# Altium integrated library pca20017.IntLib: 30 symbols
Pins are listed as number, name and electrical type; pins without a type are passive.

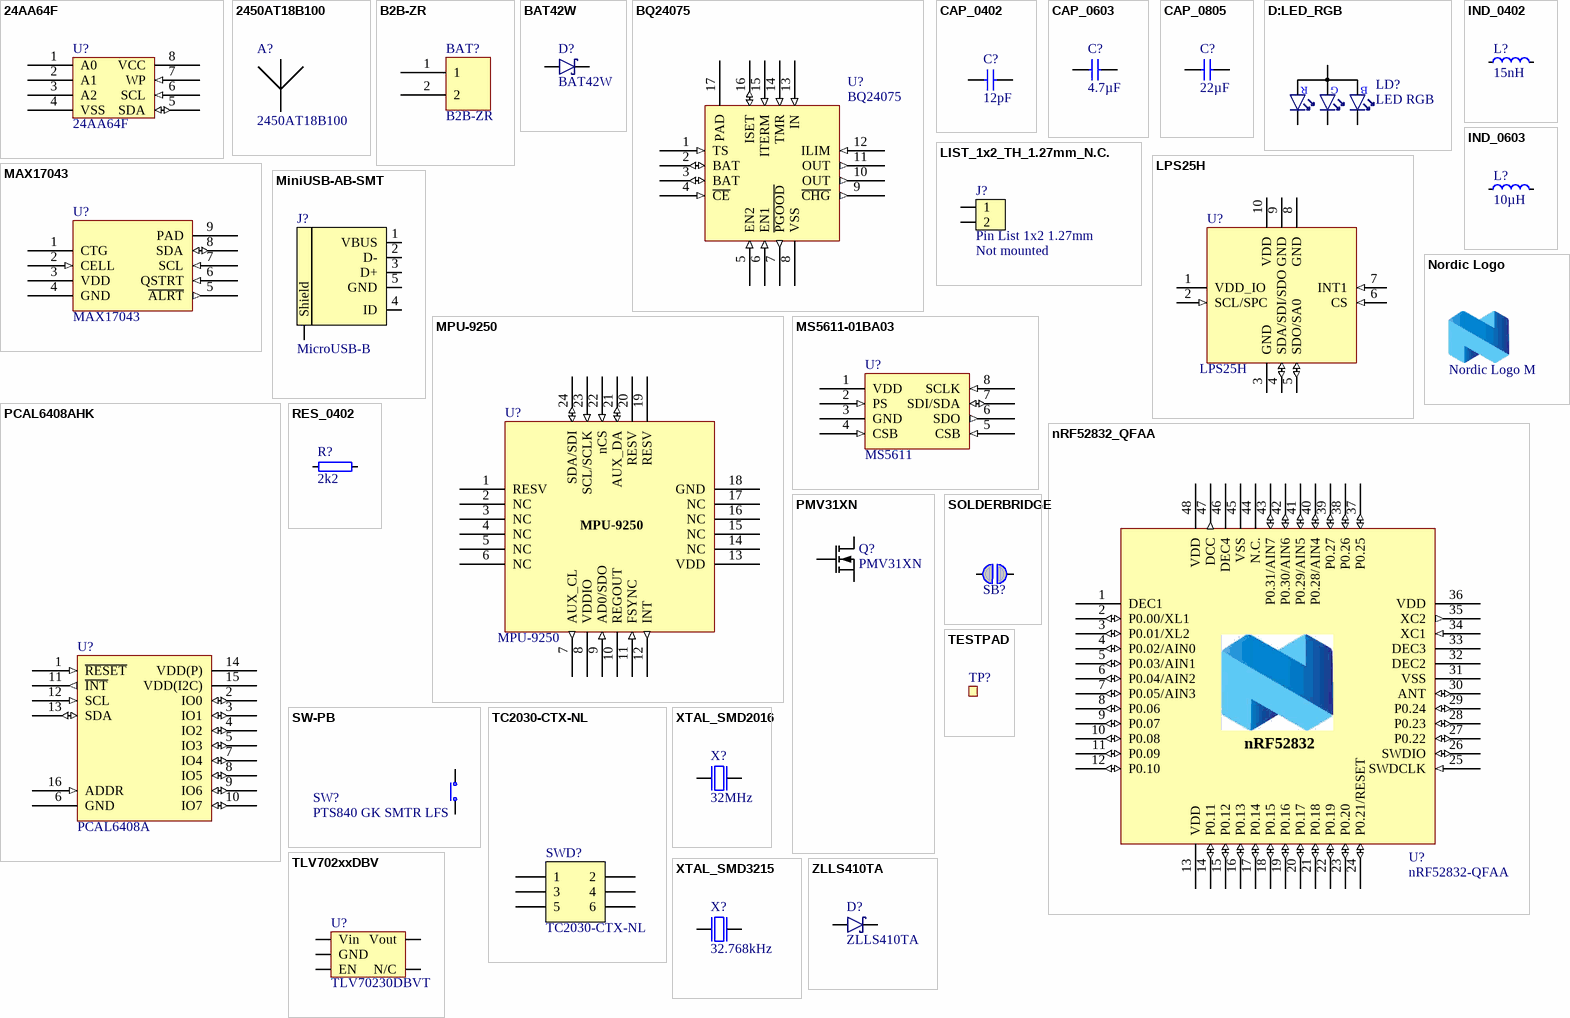
[diagram p0: symbols 24AA64F to ZLLS410TA]

## 24AA64F
designator U?
IC EEPROM 64K with I2C interface TDFN-8; Manufacturer: Microchip; Manufacturer Part Number: 24AA64T-I/MNY; Artikkelnr Noca: N.A.; Part Number: 24AA64F; Datasheet: http://ww1.microchip.com/downloads/en/DeviceDoc/21189T.pdf; Footprint Doc: TDFN-8; LatestRevisionDate: 2015-06-30; Pin Count: 8; Publisher: Nordic Semiconductor; Published: 2015-06-30; Value: 24AA64F; Note: EEPROM 64K with I2C interface; Supplier: Digi-Key; Supplier part number: 24AA64T-I/MNYCT-ND; 2nd source Supplier: *; 2nd source part number: *; Artikkelnr Simpro: N.A.
footprint 24AA64F
pins: 1 A0, 2 A1, 3 A2, 4 VSS (power), 5 SDA (io), 6 SCL (in), 7 WP (in), 8 VCC (power)

## 2450AT18B100
designator A?
2.45 GHz chip antenna; Part Number: Johanson 2450AT18B100; Manufacturer: Johanson Technology; Artikkelnr Noca: N.A.; Manufacturer Part Number: 2450AT18B100; Datasheet: http://www.johansontechnology.com/datasheets/antennas/2450AT18B100.pdf; Footprint Doc: 2450AT18B100; LatestRevisionDate: 2013-09-13; Pin Count: 2; Publisher: Nordic Semiconductor; Published: 2013-09-13; Value: 2450AT18B100; Note: *; Supplier: Digi-Key; Supplier part number: 712-1006-1-ND; 2nd source Supplier: *; 2nd source part number: *; Artikkelnr Simpro: N.A.
footprint 2450AT18B100
pins: 1

## B2B-ZR
designator BAT?
CONN JST 2POS 0.059" (1.50mm); Manufacturer: JST Sales America Inc; Manufacturer Part Number: B2B-ZR(LF)(SN); Artikkelnr Noca: N.A.; Part Number: B2B-ZR; Datasheet: http://www.jst-mfg.com/product/pdf/eng/eZH.pdf; Footprint Doc: B2B-ZR; LatestRevisionDate: 2015-07-02; Pin Count: 2; Publisher: Nordic Semiconductor; Published: 2015-07-02; Value: B2B-ZR; Note: *; Supplier: Digi-Key; Supplier part number: 455-1657-ND; 2nd source Supplier: *; 2nd source part number: *; Artikkelnr Simpro: N.A.
footprint B2B-ZR
pins: 1 (power), 2 (power)

## BAT42W
designator D?
Diode Schottky, Vr=30V, If=200mA, Vf=400mV, SOD-123; Manufacturer: Multicomp; Artikkelnr Noca: 10029103; Artikkelnr Simpro: N.A.; Part Number: BAT42W; Manufacturer Part Number: BAT42W; Datasheet: http://www.farnell.com/datasheets/62636.pdf; Footprint Doc: SOD-123; LatestRevisionDate: 2011-10-10; Pin Count: 2; Publisher: Nordic Semiconductor; Published: 2011-10-10; Value: BAT42W; Note: Diode; Supplier: Farnell; Supplier part number: 162-1829; 2nd source Supplier: *; 2nd source part number: *
footprint SOD-123
pins: 1 A, 3 C

## BQ24075
designator U?
IC SINGLE CELL USB LI-ION CHARGER; Manufacturer: Texas Instruments; Manufacturer Part Number: BQ24075RGTT; Note: USB-Friendly Li-Ion Battery Charger and Power-Path Management IC, Vout 5.5V; Artikkelnr Noca: N.A.; Part Number: BQ24075; Datasheet: http://www.ti.com/lit/ds/symlink/bq24075.pdf; Footprint Doc: S-PVQFN-N16; LatestRevisionDate: 2015-06-24; Pin Count: 16; Publisher: Nordic Semiconductor; Published: 2015-06-24; Value: BQ24075; Supplier: Digi-Key; Supplier part number: 296-23840-1-ND; 2nd source Supplier: *; 2nd source part number: *; Artikkelnr Simpro: N.A.
footprint QFN50P300X300X100_HS-17N
pins: 1 TS (in), 2 BAT (io), 3 BAT (io), 4 ~{CE} (in), 5 EN2 (in), 6 EN1 (in), 7 ~{PGOOD} (out), 8 VSS (power), 9 ~{CHG} (out), 10 OUT (out), 11 OUT (out), 12 ILIM (in), 13 IN (in), 14 TMR (in), 15 ITERM (in), 16 ISET (io), 17 PAD (power)

## CAP_0402
designator C?, comment 12pF
Capacitor, NP0, ±2%; Part Number: C0402-12p; Note: 50V; Artikkelnr Noca: 20029159; Artikkelnr Simpro: N.A.; Manufacturer: *; Manufacturer Part Number: *; Datasheet: *; LatestRevisionDate: 2011-05-11; Pin Count: 2; Publisher: Nordic Semiconductor; Published: 2009-05-08; Value: 12pF; Supplier: *; Supplier part number: *; 2nd source Supplier: *; 2nd source part number: *; Footprint Doc: 0402
footprint CAPC1005X04L
pins: 1, 2

## CAP_0603
designator C?, comment 4.7µF
Capacitor, X5R, ±10%; Part Number: C0603-4µ7; Note: 6.3V; Artikkelnr Noca: 20069060; Artikkelnr Simpro: N.A.; Manufacturer: *; Manufacturer Part Number: *; Datasheet: *; LatestRevisionDate: 2009-11-23; Pin Count: 2; Publisher: Nordic Semiconductor; Published: 2009-05-08; Value: 4.7µF; Supplier: *; Supplier part number: *; 2nd source Supplier: *; 2nd source part number: *; Footprint Doc: 0603
footprint CAPC1608X06L
pins: 1, 2

## CAP_0805
designator C?, comment 22µF
Capacitor, X5R, ±10%; Part Number: C0805-22µ; Note: 6.3V; Artikkelnr Noca: 20039330; Artikkelnr Simpro: N.A.; Manufacturer: *; Manufacturer Part Number: *; Datasheet: *; Footprint Doc: 0805; LatestRevisionDate: 2013-06-04; Pin Count: 2; Publisher: Nordic Semiconductor; Published: 2011-01-17; Value: 22µF; Supplier: *; Supplier part number: *; 2nd source Supplier: *; 2nd source part number: *
footprint CAPC2012X11L
pins: 1, 2

## D:LED_RGB
designator LD?, comment LED RGB
RGB LED 1.00 mm x 1.00 mm SMD; Part Number: SML-LX0404SIUPGUSB; Manufacturer: Lumex; 2nd source part number: 211-8843; Artikkelnr Noca: 13019150; Artikkelnr Simpro: N.A.; Manufacturer Part Number: SML-LX0404SIUPGUSB; Datasheet: http://media.digikey.com/pdf/Data%20Sheets/Lumex%20PDFs/SML-LX0404SIUPGUSB.pdf; Footprint Doc: SML-LX0404SIUPGUSB; LatestRevisionDate: 2012-10-08; Pin Count: 4; Publisher: Nordic Semiconductor; Published: 2012-10-08; Value: LED RGB; Note: *; Supplier: Digi-Key; Supplier part number: 67-2125-1-ND; 2nd source Supplier: Farnell
footprint SML-LX0404SIUPGUSB
pins: 1 C_RED, 2 C_GREEN, 3 C_BLUE, 4 A
text: R; G; B

## IND_0402
designator L?, comment 15nH
Inductor, 320mA, ±5%; Part Number: L0402-15n; Manufacturer: Taiyo Yuden; Manufacturer Part Number: HK100515NJ-T; 2nd source part number: 658-1328; Note: High frequency chip inductor ±10%; Artikkelnr Noca: 33029323; Artikkelnr Simpro: N.A.; LatestRevisionDate: 2012-09-19; Pin Count: 2; Publisher: Nordic Semiconductor; Published: 2010-07-12; Value: 15nH; Supplier: Digi-Key; Datasheet: http://www.yuden.co.jp/productdata/catalog/en/mlci04_e.pdf; Supplier part number: 587-1521-1-ND; 2nd source Supplier: Farnell; Footprint Doc: 0402
footprint INDC1005X04L
pins: 1, 2

## IND_0603
designator L?, comment 10µH
Inductor, 80mA, ±10%; Part Number: L0603-10µ; Manufacturer: Taiyo Yuden; Manufacturer Part Number: LBMF1608T100K; 2nd source part number: 178-6105; Note: LBMF1608T100K 10µH 80mA 0603; Artikkelnr Noca: 33029314; Artikkelnr Simpro: N.A.; Datasheet: http://www.yuden.co.jp/ut/product/pdf/elb2_e.pdf; LatestRevisionDate: 2012-09-19; Pin Count: 2; Publisher: Nordic Semiconductor; Published: 2010-02-24; Value: 10µH; Supplier: Digi-Key; Supplier part number: 587-1714-1-ND; 2nd source Supplier: Farnell; Footprint Doc: 0603
footprint INDC1608X06L
pins: 1, 2

## LIST_1x2_TH_1.27mm_N.C.
designator J?, comment Pin List 1x2 1.27mm  Assembly: Not mounted
Pin List 1x2, 1.27mm (50mil), N.C.; Part Number: Pin List 1x2 TH, 1.27mm, N.C.; Artikkelnr Noca: N.A.; Manufacturer: *; Manufacturer Part Number: *; Datasheet: *; Footprint Doc: LIST_1x2_TH_1.27mm_N.C.; LatestRevisionDate: 2015-07-03; Pin Count: 2; Publisher: Nordic Semiconductor; Published: 2015-06-26; Value: Pin List 1x2 1.27mm; Note: *; Supplier: *; Supplier part number: *; 2nd source Supplier: *; 2nd source part number: *; Artikkelnr Simpro: N.A.
footprint LIST_1x2_TH_1.27mm_N.C.
pins: 1, 2

## LPS25H
designator U?
MEMS pressure sensor: 260-1260 hPa absolute digital output barometer; Part Number: LPS25H (NRND); Manufacturer: STMicroelectronics; 2nd source part number: 511-LPS25HTR; Artikkelnr Noca: N.A.; Manufacturer Part Number: LPS25H; Datasheet: http://www.st.com/st-web-ui/static/active/en/resource/technical/document/datasheet/DM00066332.pdf; Footprint Doc: HCLGA-10L; LatestRevisionDate: 2014-08-21; Pin Count: 10; Publisher: Nordic Semiconductor; Published: 2014-08-21; Value: LPS25H; Note: *; Supplier: Digi-Key; Supplier part number: 497-14380-1-ND; 2nd source Supplier: Mouser; Artikkelnr Simpro: N.A.
footprint HCLGA-10L (2.5x2.5x1.0mm)
pins: 1 VDD_IO (power), 2 SCL/SPC (in), 3 GND (power), 4 SDA/SDI/SDO (io), 5 SDO/SA0 (io), 6 CS (in), 7 INT1 (in), 8 GND (power), 9 GND (power), 10 VDD (power)

## MAX17043
designator U?
IC FUEL FUAGE LI-ION; Manufacturer: Maxim; Manufacturer Part Number: MAX17043G+U; 2nd source part number: 700-MAX17043G+U; Note: Compact, Low-Cost 1S/2S Fuel Gauges with Low-Battery Alert; Artikkelnr Noca: N.A.; Part Number: MAX17043; Datasheet: http://www.mouser.com/ds/2/256/MAX17043-MAX17044-44624.pdf; Footprint Doc: TDFN-8L-2x3mm; LatestRevisionDate: 2015-06-24; Pin Count: 8; Publisher: Nordic Semiconductor; Published: 2015-06-24; Value: MAX17043; Supplier: *; Supplier part number: *; 2nd source Supplier: Mouser; Artikkelnr Simpro: N.A.
footprint MAX17043
pins: 1 CTG, 2 CELL (in), 3 VDD (power), 4 GND (power), 5 ~{ALRT} (out), 6 QSTRT (in), 7 SCL (in), 8 SDA (io), 9 PAD (power)

## MiniUSB-AB-SMT
designator J?, comment MicroUSB-B
MicroUSB-B-SMT; Part Number: USB-Micro-B-RA-SMD-PiP; Manufacturer: Allen Creations Corp.; Manufacturer Part Number: AJU55-BS2111-L; 2nd source part number: 609-4616-1-ND; Artikkelnr Noca: 55029020; Artikkelnr Simpro: N.A.; Datasheet: \\hizz\pro\app9717\Datasheet\connectores\Allen Creations Corp\AJU-211.pdf; Footprint Doc: USB-Micro-B-RA-SMD-PiP; LatestRevisionDate: 2016-04-21; Pin Count: 5; Publisher: Nordic Semiconductor; Published: 2014-10-07; Value: MicroUSB-B; Note: *; Supplier: Cabcon; Supplier part number: AJU55-BS2111-L; 2nd source Supplier: Digi-Key
footprint USB-Micro-B-RA-SMD-PiP
pins: 1 VBUS (power), 2 D-, 3 D+, 4 ID, 5 GND (power), 6 Shield (power)

## MPU-9250
designator U?
9-axis MotionTracking™ Device; Manufacturer: InvenSense; Note: 3-Axis Gyro, 3-Axis Accel and 3-Axis Compass; Artikkelnr Noca: N.A.; Part Number: MPU-9250; Manufacturer Part Number: MPU-9250; Datasheet: http://43zrtwysvxb2gf29r5o0athu.wpengine.netdna-cdn.com/wp-content/uploads/2015/02/MPU-9250-Datasheet.pdf; Footprint Doc: QFN-24; LatestRevisionDate: 2015-06-24; Pin Count: 24; Publisher: Nordic Semiconductor; Published: 2015-06-24; Value: MPU-9250; Supplier: Digi-Key; Supplier part number: 1428-1019-1-ND; 2nd source Supplier: *; 2nd source part number: *; Artikkelnr Simpro: N.A.
footprint QFN40P300X300X105_HS-25N
pins: 1 RESV, 2 NC, 3 NC, 4 NC, 5 NC, 6 NC, 7 AUX_CL (out), 8 VDDIO (power), 9 AD0/SDO (in), 10 REGOUT, 11 FSYNC (in), 12 INT (out), 13 VDD (power), 14 NC, 15 NC, 16 NC, 17 NC, 18 GND (power), 19 RESV, 20 RESV, 21 AUX_DA (io), 22 nCS (in), 23 SCL/SCLK (in), 24 SDA/SDI (io)

## MS5611-01BA03
designator U?, comment MS5611
Accurate Pressure/Altitude and Temperature sensor with I2C and SPI interface; Part Number: MS5611-01BA03; Manufacturer: Measurement Specialties; Manufacturer Part Number: MS561101BA03-50; 2nd source part number: 824-MS561101BA03-50; Value: MS5611-01BA03; Note: MEASUREMENT SPECIALTIES  MS561101BA03-50  SENSOR, BAROMETRIC, 0.01-1.2BAR, QFN-8; Artikkelnr Noca: N.A.; Datasheet: http://www.meas-spec.com/downloads/MS5611-01BA03.pdf; Footprint Doc: QFN-8; LatestRevisionDate: 2015-06-24; Pin Count: 8; Publisher: Nordic Semiconductor; Published: 2015-06-24; Supplier: Farnell; Supplier part number: 2362662; 2nd source Supplier: Mouser; Artikkelnr Simpro: N.A.
footprint QFN125P300X500X100-8N
pins: 1 VDD (power), 2 PS (in), 3 GND (power), 4 CSB (in), 5 CSB (in), 6 SDO (out), 7 SDI/SDA (io), 8 SCLK (in)

## Nordic Logo
designator LOGO?, comment Nordic Logo M  (no BOM)
Nordic Logo, medium size; Artikkelnr Noca: N.A.; Part Number: Nordic Logo M; Manufacturer: *; Manufacturer Part Number: *; Datasheet: *; LatestRevisionDate: 2010-02-18; Publisher: Nordic Semiconductor; Value: Nordic Logo M; Note: *; Supplier: *; Supplier part number: *; 2nd source Supplier: *; 2nd source part number: *; Pin Count: 2; Published: 2010-02-18; Footprint Doc: NORDIC_LOGO_M; Artikkelnr Simpro: N.A.
footprint NORDIC_LOGO_M

## nRF52832_QFAA
designator U?, comment nRF52832-QFAA
Multi-protocol Bluetooth Low Energy, ANT and 2.4GHz proprietary system-on-chip; Manufacturer: Nordic Semiconductor; Artikkelnr Noca: 15079306; Artikkelnr Simpro: N.A.; Part Number: nRF52832-QFAA; Manufacturer Part Number: nRF52832-QFAA; Datasheet: *; LatestRevisionDate: 2016-06-02; Pin Count: 48; Publisher: Nordic Semiconductor; Published: 2014-11-26; Value: nRF52832-QFAA; Note: *; Supplier: Nordic Semiconductor; Supplier part number: *; 2nd source Supplier: *; 2nd source part number: *; Footprint Doc: QFN-48
footprint QFN40P600X600X90-48N
pins: 1 DEC1 (power), 2 P0.00/XL1 (io), 3 P0.01/XL2 (io), 4 P0.02/AIN0 (io), 5 P0.03/AIN1 (io), 6 P0.04/AIN2 (io), 7 P0.05/AIN3 (io), 8 P0.06 (io), 9 P0.07 (io), 10 P0.08 (io), 11 P0.09 (io), 12 P0.10 (io), 13 VDD (power), 14 P0.11 (io), 15 P0.12 (io), 16 P0.13 (io), 17 P0.14 (io), 18 P0.15 (io), 19 P0.16 (io), 20 P0.17 (io), 21 P0.18 (io), 22 P0.19 (io), 23 P0.20 (io), 24 P0.21/RESET (io), 25 SWDCLK (in), 26 SWDIO (io), 27 P0.22 (io), 28 P0.23 (io), 29 P0.24 (io), 30 ANT (io), 31 VSS (power), 32 DEC2 (power), 33 DEC3 (power), 34 XC1 (in), 35 XC2 (out), 36 VDD (power), 37 P0.25 (io), 38 P0.26 (io), 39 P0.27 (io), 40 P0.28/AIN4 (io), 41 P0.29/AIN5 (io), 42 P0.30/AIN6 (io), 43 P0.31/AIN7 (io), 44 N.C. (power), 45 VSS (power), 46 DEC4 (power), 47 DCC (out), 48 VDD (power), 49 GND (power) hidden to GND
text: nRF52832

## PCAL6408AHK
designator U?, comment PCAL6408A
8-bit I2C-bus I/O expander with interrupt output; Part Number: PCAL6408AHK; Manufacturer: NXP Semiconductors; 2nd source part number: 771-PCAL6408AHKX; Artikkelnr Noca: N.A.; Manufacturer Part Number: PCAL6408AHK; Datasheet: http://www.nxp.com/documents/data_sheet/PCAL6408A.pdf; Footprint Doc: XQFN-16; LatestRevisionDate: 2015-04-29; Pin Count: 16; Publisher: Nordic Semiconductor; Published: 2015-04-29; Value: PCAL6408A; Note: *; Supplier: Digi-Key; Supplier part number: 568-9944-2-ND; 2nd source Supplier: Mouser; Artikkelnr Simpro: N.A.
footprint XQFN40P180X260X50-16N
pins: 1 ~{RESET} (in), 2 IO0 (io), 3 IO1 (io), 4 IO2 (io), 5 IO3 (io), 6 GND (power), 7 IO4 (io), 8 IO5 (io), 9 IO6 (io), 10 IO7 (io), 11 ~{INT} (out), 12 SCL (in), 13 SDA (io), 14 VDD(P) (power) "VDD 2.3V - 5.5V", 15 VDD(I2C) (power), 16 ADDR (in)

## PMV31XN
designator Q?
N-channel TrenchMOS FET; Manufacturer: NXP; 2nd source part number: 1081481RL; Note: 20V; Artikkelnr Noca: N.A.; Part Number: PMV31XN; Manufacturer Part Number: PMV31XN; Datasheet: http://www.nxp.com/documents/data_sheet/PMV31XN.pdf; Footprint Doc: SOT23; LatestRevisionDate: 2015-06-24; Publisher: Nordic Semiconductor; Published: 2015-06-24; Value: PMV31XN; Supplier: Digi-Key; Supplier part number: 568-2354-2-ND; 2nd source Supplier: Farnell; Artikkelnr Simpro: N.A.
footprint SOT-23a
pins: 1 G, 2 S, 3 D

## RES_0402
designator R?, comment 2k2
Resistor, ±1%, 0.063W; Part Number: R0402-2k2; Note: Chip Res 1%; Artikkelnr Noca: 27049081; Artikkelnr Simpro: N.A.; Value Ohm: 2200; Manufacturer: *; Manufacturer Part Number: *; Datasheet: *; Footprint Doc: 0402; LatestRevisionDate: 2009-11-23; Pin Count: 2; Publisher: Nordic Semiconductor; Published: 2009-05-08; Value: 2k2; Supplier: Farnell; Supplier part number: 173-8854; 2nd source Supplier: *; 2nd source part number: *
footprint RESC1005X04L
pins: 1, 2

## SOLDERBRIDGE
designator SB?, comment Solderbridge  (value not drawn)  (no BOM)
Artikkelnr Noca: N.A.; Part Number: Solderbridge; Manufacturer: *; Manufacturer Part Number: *; Datasheet: *; Footprint Doc: Solderbridge; LatestRevisionDate: 2009-12-14; Pin Count: 2; Publisher: Nordic Semiconductor; Published: 2009-12-14; Value: Solderbridge; Note: *; Supplier: *; Supplier part number: *; 2nd source Supplier: *; 2nd source part number: *; Artikkelnr Simpro: N.A.
footprint Solderbridge
pins: 1 0, 2 1

## SW-PB
designator SW?, comment PTS840 GK SMTR LFS
Microminiature SMT Switch, Side Actuated; Manufacturer: C & K; 2nd source part number: 611-PTS840GKSMTR; Note: Tactile Switch, SPST, SMD, 220gf; Artikkelnr Noca: 50019089; Artikkelnr Simpro: N.A.; Part Number: PTS840 GK SMTR LFS; Manufacturer Part Number: PTS840 GK SMTR LFS; Datasheet: http://www.ck-components.com/80185/pts840_11june13.pdf/; Footprint Doc: PTS840 Gx; LatestRevisionDate: 2014-09-17; Pin Count: 4; Publisher: Nordic Semiconductor; Published: 2014-08-12; Value: PTS840 GK SMTR LFS; Supplier: Digi-Key; Supplier part number: CKN10508CT-ND; 2nd source Supplier: Mouser
footprint EVQP7A/J/B/K
pins: 1 N.O, 2 COM

## TC2030-CTX-NL
designator SWD?  (no BOM)
CBL PLUG-OF-NAILS 6-PIN; Manufacturer: Tag-Connect LLC; Artikkelnr Noca: N.A.; Part Number: TC2030-CTX-NL; Manufacturer Part Number: TC2030-CTX-NL; Datasheet: http://www.tag-connect.com/Materials/TC2030-IDC-NL.pdf; Footprint Doc: TC2030-IDC-NLFP; LatestRevisionDate: 2013-08-08; Pin Count: 6; Publisher: Nordic Semiconductor; Published: 2013-08-08; Value: TC2030-CTX-NL; Supplier: Tag-Connect; Supplier part number: TC2030-CTX-NL; 2nd source Supplier: *; 2nd source part number: *; Artikkelnr Simpro: N.A.
footprint TC2030-IDC-NLFP
pins: 1, 2, 3, 4, 5, 6

## TESTPAD
designator TP?, comment Ø1.0mm,SMD  (value not drawn)  (no BOM)
1.0mm circular SMD testpad; Part Number: TP_SMD_Ø1.0MM; Manufacturer: Nordic Semiconductor; Artikkelnr Noca: N.A.; Manufacturer Part Number: *; Datasheet: *; Footprint Doc: TP_SMD_Ø1.0mm; LatestRevisionDate: 2013-06-11; Pin Count: 1; Publisher: Nordic Semiconductor; Published: 2013-06-11; Value: Ø1.0mm,SMD; Note: *; Supplier: *; Supplier part number: *; 2nd source Supplier: *; 2nd source part number: *; Artikkelnr Simpro: N.A.
footprint TP_SMD_Ø1.0mm
pins: 1

## TLV702xxDBV
designator U?, comment TLV70230DBVT
IC REG LDO 3V 300MA SOT23-5; Manufacturer: Texas Instruments; Note: 300-mA, Low-IQ, Low-Dropout Regulator; Artikkelnr Noca: N.A.; Part Number: TLV70230DBVT; Manufacturer Part Number: TLV70230DBVT; Datasheet: http://www.ti.com/lit/ds/symlink/tlv70218.pdf; Footprint Doc: SOT-23-5; LatestRevisionDate: 2015-06-24; Pin Count: 5; Publisher: Nordic Semiconductor; Published: 2015-06-24; Value: TLV70230DBVT; Supplier: Digi-Key; Supplier part number: 296-27893-1-ND; 2nd source Supplier: *; 2nd source part number: *; Artikkelnr Simpro: N.A.
footprint SOT-23-5
pins: 1 Vin, 2 GND, 3 EN, 4 N/C, 5 Vout

## XTAL_SMD2016
designator X?, comment 32MHz
XTAL SMD 2016, 32MHz, Cl=8pF, Tot: ±40ppm; Part Number: XTAL_SMD2016_32MHz_8pF_Kyocera; Manufacturer: Kyocera; Manufacturer Part Number: CX2016DB32000D0WZRC1; Note: XTAL SMD 32.000MHz; Artikkelnr Noca: 22010022; Artikkelnr Simpro: N.A.; Datasheet: http://media.digikey.com/pdf/Data%20Sheets/AVX%20PDFs/CX2016DB32000D0WZRC1_Spec.pdf; LatestRevisionDate: 2016-06-02; Pin Count: 4; Publisher: Nordic Semiconductor; Published: 2015-10-15; Value: 32MHz; Supplier: Digi-Key; Supplier part number: 1253-1586-1-ND; 2nd source Supplier: *; 2nd source part number: *; Footprint Doc: XTAL_2016
footprint BT-XTAL_2016
pins: 1 inp, 2 GND hidden to GND, 3 out, 4 GND hidden to GND

## XTAL_SMD3215
designator X?, comment 32.768kHz
XTAL SMD 2012, 32.768kHz, 9pF, ±20ppm; Part Number: XTAL_SMD3215_32.768kHz_9pF_Seiko; Manufacturer: Seiko; Manufacturer Part Number: SC32S-9.0PF20PPM; Note: XTAL SMD 32.768kHz, 3215; Artikkelnr Noca: N.A.; Datasheet: http://www.sii.co.jp/en/quartz/files/2013/03/file_PRODUCT_MASTER_50812_GRAPHIC03.pdf; LatestRevisionDate: 2015-10-15; Pin Count: 2; Publisher: Nordic Semiconductor; Published: 2015-10-15; Value: 32.768kHz; Supplier: *; Supplier part number: *; 2nd source Supplier: *; 2nd source part number: *; Footprint Doc: XTAL_3215; Artikkelnr Simpro: N.A.
footprint XTAL_3215
pins: 1 inp, 2 out

## ZLLS410TA
designator D?
DIODE SCHOTTKY 10V 0.57A SOD323; Manufacturer: Diodes Incorporated; 2nd source part number: 522-ZLLS410TA; Artikkelnr Noca: N.A.; Part Number: ZLLS410TA; Manufacturer Part Number: ZLLS410TA; Datasheet: http://www.diodes.com/datasheets/ZLLS410.pdf; Footprint Doc: SOD-323; LatestRevisionDate: 2014-12-11; Publisher: Nordic Semiconductor; Published: 2014-12-11; Value: ZLLS410TA; Note: *; Supplier: Digi-Key; Supplier part number: ZLLS410CT-ND; 2nd source Supplier: Mouser; Artikkelnr Simpro: N.A.
footprint SOD-323
pins: 1 A, 3 C